# EAGLE library part PL2303HXUARTM (library soumilcustom)
PL2303HX USB to UART Module PL2303HX based USB UART Module
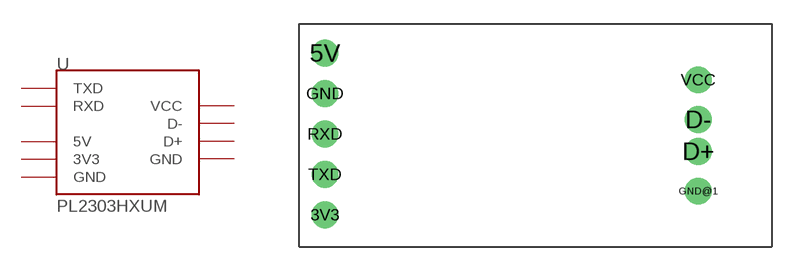
[diagram p7: symbol with the pads of PL2302UARTM; footprint PL2302UARTM]

Designator prefix -

## PL2303HXUARTM  [PL2302UARTM]
3V3  3V3
5V  5V
D+  D+
D-  D-
GND  GND
GND@1  GND
RXD  RXD
TXD  TXD
VCC  VCC

## Footprint PL2302UARTM (pad centres in mm)
PL2303HX USB-UART Module
drill 1.016 pad 1.676: 3V3 -12.37,-5.62; 5V -12.37,4.54; D+ 11.03,-1.63; D- 11.03,0.37; GND -12.37,2; GND@1 11.03,-4.12; RXD -12.37,-0.54; TXD -12.37,-3.08; VCC 11.03,2.86